# Altium footprint library QFN50P500X700X100_HS-41N.PcbLib: 1 footprints
Each footprint in its own frame and in the unit in brackets; x right, y up, seen from the top. Pads: shape width x height; smd on the part's side, far side on the other; paste and mask are expansions set on the pad; w line width, h text height; cw(c..) or ccw(c..) is an arc to the next point about the centre after c.
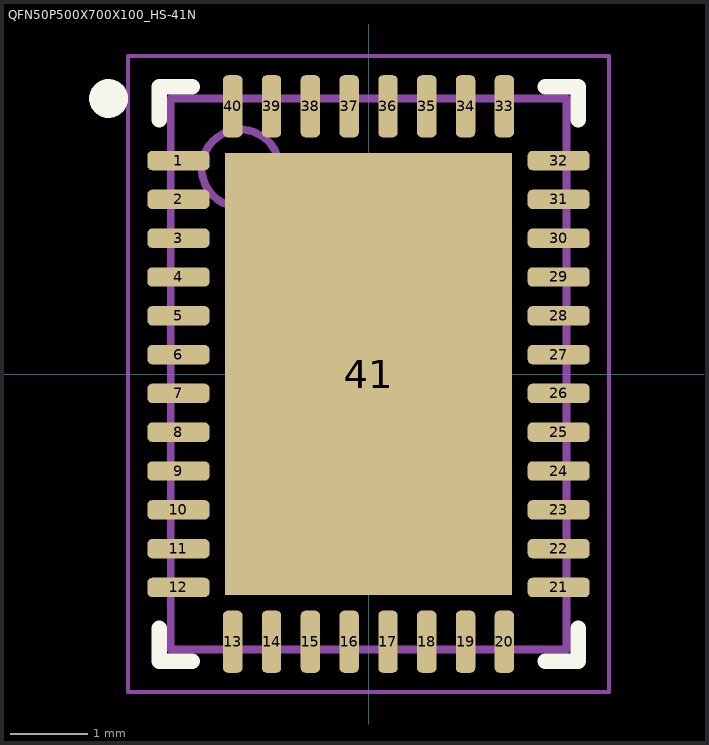
[diagram p0: the footprint, top view; thin cyan lines are the x and y axes]

## QFN50P500X700X100_HS-41N [mm] "QFN, 40-Leads, Body 5.00x7.00mm, Pitch 0.50mm, Thermal Pad 3.70x5.70mm, IPC Medium Density"
height 1
pads (41):
  rrect50% 0.8x0.25 smd: 1(-2.45,2.75) 2(-2.45,2.25) 3(-2.45,1.75) 4(-2.45,1.25) 5(-2.45,0.75) 6(-2.45,0.25) 7(-2.45,-0.25) 8(-2.45,-0.75) 9(-2.45,-1.25) 10(-2.45,-1.75) 11(-2.45,-2.25) 12(-2.45,-2.75) 21(2.45,-2.75) 22(2.45,-2.25) 23(2.45,-1.75) 24(2.45,-1.25) 25(2.45,-0.75) 26(2.45,-0.25) 27(2.45,0.25) 28(2.45,0.75) 29(2.45,1.25) 30(2.45,1.75) 31(2.45,2.25) 32(2.45,2.75)
  rrect50% 0.25x0.8 smd: 13(-1.75,-3.45) 14(-1.25,-3.45) 15(-0.75,-3.45) 16(-0.25,-3.45) 17(0.25,-3.45) 18(0.75,-3.45) 19(1.25,-3.45) 20(1.75,-3.45) 33(1.75,3.45) 34(1.25,3.45) 35(0.75,3.45) 36(0.25,3.45) 37(-0.25,3.45) 38(-0.75,3.45) 39(-1.25,3.45) 40(-1.75,3.45)
  rect 3.7x5.7 smd paste-1.85: 41(0,0)
Top Overlay:
  circle w0.25: c-3.35,3.55 r0.125
  lines w0.2: -2.7,-3.275 -2.7,-3.7 -2.275,-3.7 ; -2.7,3.275 -2.7,3.7 -2.275,3.7 ; 2.275,-3.7 2.7,-3.7 2.7,-3.275 ; 2.275,3.7 2.7,3.7 2.7,3.275
Top Paste:
  region: 1.775,-1.441 0.725,-1.441 0.725,-2.591 1.775,-2.591
  region: -0.725,-1.441 -1.775,-1.441 -1.775,-2.591 -0.725,-2.591
  region: 1.775,-0.091 0.725,-0.091 0.725,-1.241 1.775,-1.241
  region: -0.725,-0.091 -1.775,-0.091 -1.775,-1.241 -0.725,-1.241
  rectangle: -1.775,1.45 -0.725,2.6
  rectangle: 0.725,1.45 1.775,2.6
  rectangle: -1.775,0.1 -0.725,1.25
  rectangle: 0.725,0.1 1.775,1.25
  rectangle: -0.525,1.45 0.525,2.6
  rectangle: -0.525,-2.6 0.525,-1.45
  rectangle: -0.525,-1.25 0.525,-0.1
  rectangle: -0.525,0.1 0.525,1.25
Top Courtyard:
  lines w0.05: -3.1,-4.1 -3.1,4.1 3.1,4.1 3.1,-4.1 -3.1,-4.1
  lines w0.1: -0.5,0 0.5,0 ; 0,-0.5 0,0.5
Mechanical 13:
  circle w0.1: c-1.65,2.65 r0.5
  lines w0.1: -2.55,-3.55 -2.55,3.55 2.55,3.55 2.55,-3.55 -2.55,-3.55
3D body: height 1, standoff 0.05, extent -2.55,-3.55 2.55,3.55